# Altium schematic symbol library MMBD4148CC.Schlib: 1 symbol
Pins are listed as number, name and electrical type; pins without a type are passive.

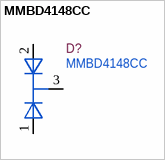
[diagram p0: symbol MMBD4148CC]

## MMBD4148CC
designator D?
SWITCHING DIODE 75V 200MA 1V @ 10MA 4NS SOT-23(SOT-23-3) ROHS; ComponentLink1Description: LCSC - ST(Semtech) MMBD4148CC; ComponentLink1URL: https://lcsc.com/product-detail/Switching-Diode_MMBD4148CC_C83938.html/?href=jlc-SMT; LCSC Part #: C83938; JLCPCB Part Type: Extended
footprint SOT23-3
pins: 1 A1, 2 A2, 3 K